# Altium footprint library Acoustic.PcbLib: 3 footprints
Each footprint in its own frame and in the unit in brackets; x right, y up, seen from the top. Pads: shape width x height; smd on the part's side, far side on the other; paste and mask are expansions set on the pad; w line width, h text height; cw(c..) or ccw(c..) is an arc to the next point about the centre after c.
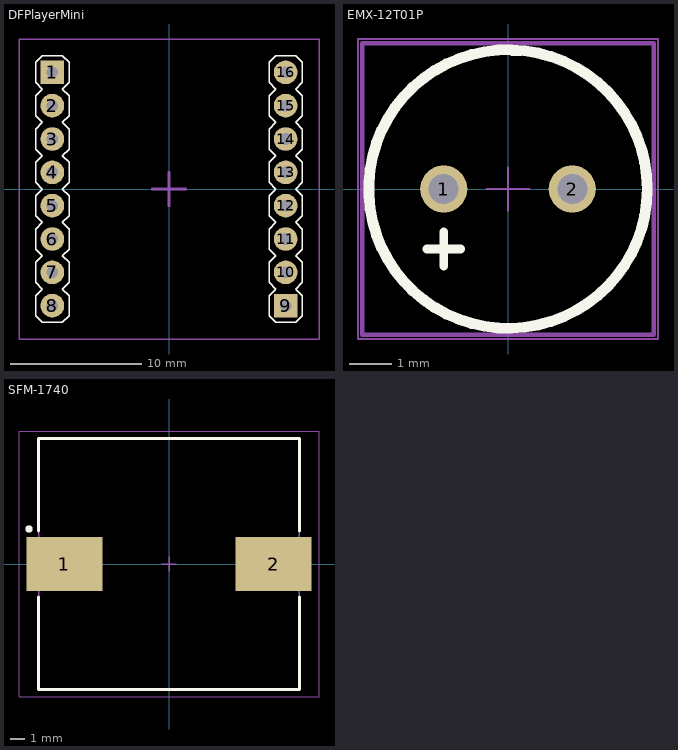
[diagram p0: the footprints below, top view; thin cyan lines are the x and y axes]

## DFPlayerMini [mm] "несколько штырьковых розеток"
pads (16):
  rect 1.8x1.8 hole 0.9: 1(-8.89,8.89) 9(8.89,-8.89)
  round 1.8 hole 0.9: 2(-8.89,6.35) 3(-8.89,3.81) 4(-8.89,1.27) 5(-8.89,-1.27) 6(-8.89,-3.81) 7(-8.89,-6.35) 8(-8.89,-8.89) 10(8.89,-6.35) 11(8.89,-3.81) 12(8.89,-1.27) 13(8.89,1.27) 14(8.89,3.81) 15(8.89,6.35) 16(8.89,8.89)
Top Overlay:
  lines w0.1: -10.16,-9.652 -10.16,-8.89 -10.16,-8.128 -9.652,-7.62 -10.16,-7.112 -10.16,-6.35 -10.16,-5.588 -9.652,-5.08 -10.16,-4.572 -10.16,-3.81 -10.16,-3.048 -9.652,-2.54 -10.16,-2.032 -10.16,-1.27 -10.16,-0.508 -9.652,0 -10.16,0.508 -10.16,1.27 -10.16,2.032 -9.652,2.54 -10.16,3.048 -10.16,3.81 -10.16,4.572 -9.652,5.08 -10.16,5.588 -10.16,6.35 -10.16,7.112 -9.652,7.62 -10.16,8.128 -10.16,8.89 -10.16,9.652 -9.652,10.16 -8.128,10.16 -7.62,9.652 -7.62,8.89 -7.62,8.128 -8.128,7.62 -7.62,7.112 -7.62,6.35 -7.62,5.588 -8.128,5.08 -7.62,4.572 -7.62,3.81 -7.62,3.048 -8.128,2.54 -7.62,2.032 -7.62,1.27 -7.62,0.508 -8.128,0 -7.62,-0.508 -7.62,-1.27 -7.62,-2.032 -8.128,-2.54 -7.62,-3.048 -7.62,-3.81 -7.62,-4.572 -8.128,-5.08 -7.62,-5.588 -7.62,-6.35 -7.62,-7.112 -8.128,-7.62 -7.62,-8.128 -7.62,-8.89 -7.62,-9.652 -8.128,-10.16 -9.652,-10.16 -10.16,-9.652 ; 7.62,-9.652 7.62,-8.89 7.62,-8.128 8.128,-7.62 7.62,-7.112 7.62,-6.35 7.62,-5.588 8.128,-5.08 7.62,-4.572 7.62,-3.81 7.62,-3.048 8.128,-2.54 7.62,-2.032 7.62,-1.27 7.62,-0.508 8.128,0 7.62,0.508 7.62,1.27 7.62,2.032 8.128,2.54 7.62,3.048 7.62,3.81 7.62,4.572 8.128,5.08 7.62,5.588 7.62,6.35 7.62,7.112 8.128,7.62 7.62,8.128 7.62,8.89 7.62,9.652 8.128,10.16 9.652,10.16 10.16,9.652 10.16,8.89 10.16,8.128 9.652,7.62 10.16,7.112 10.16,6.35 10.16,5.588 9.652,5.08 10.16,4.572 10.16,3.81 10.16,3.048 9.652,2.54 10.16,2.032 10.16,1.27 10.16,0.508 9.652,0 10.16,-0.508 10.16,-1.27 10.16,-2.032 9.652,-2.54 10.16,-3.048 10.16,-3.81 10.16,-4.572 9.652,-5.08 10.16,-5.588 10.16,-6.35 10.16,-7.112 9.652,-7.62 10.16,-8.128 10.16,-8.89 10.16,-9.652 9.652,-10.16 8.128,-10.16 7.62,-9.652
Mechanical 13:
  lines w0.1: -11.43,-11.43 -11.43,11.43 11.43,11.43 11.43,-11.43 -11.43,-11.43
Mechanical 15:
  lines w0.1: -11.43,-11.43 -11.43,11.43 11.43,11.43 11.43,-11.43 -11.43,-11.43
  lines w0.2: -1.27,0 0,0 ; 0,-1.27 0,0 ; 0,1.27 0,0 ; 1.27,0 0,0
3D body: height 8.6, standoff -2.9, extent -10.14,-10.167 -7.64,10.16
3D body: height 8.6, standoff -2.9, extent 7.64,-10.16 10.14,10.167
3D body: height 7, standoff 6, extent -11.43,-11.43 11.43,11.43

## EMX-12T01P [mm]
pads (2):
  round 1.1 hole 0.7: 1(-1.5,0) 2(1.5,0)
Top Overlay:
  circle w0.254: c0,0 r3.25
  lines w0.2: -1.9,-1.4 -1.1,-1.4 ; -1.5,-1.8 -1.5,-1 ; 0.1,3.2 0.3,3.2 ; 3.25,0 3.25,0.25
Mechanical 13:
  lines w0.1: -3.4,-3.4 3.4,-3.4 3.4,3.4 -3.4,3.4 -3.4,-3.4
Mechanical 15:
  lines w0.05: -0.5,0 0,0 ; 0,-0.5 0,0 ; 0,0.5 0,0 ; 0.5,0 0,0 ; -3.5,-3.5 3.5,-3.5 3.5,3.5 -3.5,3.5 -3.5,-3.5
3D body: height 3.6, standoff -2.9, extent -3.224,-3.243 3.25,3.244

## SFM-1740 [mm] "SMD Buzzer/Transducer"
height 5.3
pads (2):
  rect 5.15x3.65 smd: 1(-7.1,0) 2(7.1,0)
Top Overlay:
  circle w0.25: c-9.5,2.375 r0.125
  lines w0.2: -8.85,-2.225 -8.85,-8.5 8.85,-8.5 8.85,-2.225 ; -8.85,2.225 -8.85,8.5 8.85,8.5 8.85,2.225
Mechanical 13:
  lines w0.1: -8.85,-8.5 -8.85,8.5 8.85,8.5 8.85,-8.5 -8.85,-8.5
Mechanical 15:
  lines w0.05: -10.175,-9 -10.175,9 10.175,9 10.175,-9 -10.175,-9
  lines w0.1: -0.5,0 0.5,0 ; 0,-0.5 0,0.5
3D body: height 5.3, standoff 0, extent -8.85,-8.5 8.85,8.5